# Altium footprint library PcbLib1.PcbLib: 2 footprints
Each footprint in its own frame and in the unit in brackets; x right, y up, seen from the top. Pads: shape width x height; smd on the part's side, far side on the other; paste and mask are expansions set on the pad; w line width, h text height; cw(c..) or ccw(c..) is an arc to the next point about the centre after c.
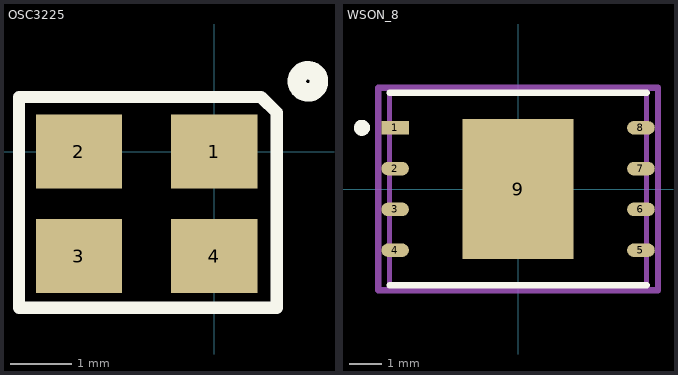
[diagram p0: the footprints below, top view; thin cyan lines are the x and y axes]

## OSC3225 [mm]
pads (4):
  rect 1.4x1.2 smd: 1(0,0) 2(-2.2,0) 3(-2.2,-1.7) 4(0,-1.7)
Top Overlay:
  circle w0.3: c1.524,1.143 r0.18
  lines w0.2: -3.175,-2.54 1.016,-2.54 1.016,0.635 0.762,0.889 -3.175,0.889 -3.175,-2.54
3D body "User Library-Ecsxtal__ECS-3225MV__Body3_2x2_5__H1_2.step": height 1, standoff 0, extent -2.616,-2.139 0.584,0.361

## WSON_8 [mm]
pads (9):
  rect 0.861x0.418 smd paste+0 mask+0: 1(-3.826,1.905)
  oval 0.861x0.418 smd paste+0 mask+0: 2(-3.826,0.635) 3(-3.826,-0.635) 4(-3.826,-1.905) 5(3.826,-1.905) 6(3.826,-0.635) 7(3.826,0.635) 8(3.826,1.905)
  rect 3.45x4.35 smd paste-1000 mask+0: 9(0,0)
Top Overlay:
  circle w0.25: c-4.856,1.905 r0.125
  lines w0.2: -4,-3 4,-3 ; -4,3 4,3
Top Paste:
  rectangle: -1.021,-1.471 1.021,1.471
Mechanical 10:
  lines w0.2: -4.356,-3.15 4.356,-3.15 4.356,3.15 -4.356,3.15 -4.356,-3.15
Mechanical 12:
  lines w0.15: -4,-3 4,-3 4,3 -4,3 -4,-3
Mechanical 15:
  lines w0.1: -0.945,0 0.945,0 ; 0,-0.945 0,0.945
  lines w0.2: -4.356,-3.15 4.356,-3.15 4.356,3.15 -4.356,3.15 -4.356,-3.15
3D body "IC_Winbond_W25Q256JVEIQ_eec.STEP": height 0, standoff -0.07, extent -3.911,1.9 -3.902,1.909
3D body "IC_Winbond_W25Q256JVEIQ_eec.STEP": height 0, standoff -0.07, extent -3.911,1.9 -3.902,1.909
3D body "User Library-WSON-8x6.step": height 0.73, standoff -0.02, extent -4,-3 4,3